# EAGLE library part TPS562209 (library crasbe)
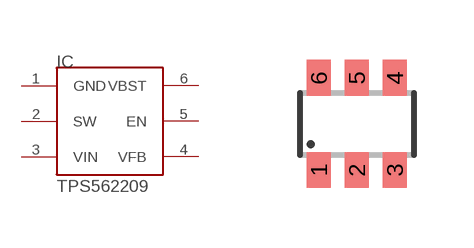
[diagram p40: symbol with the pads of SOT23-6; footprint SOT23-6]

Designator prefix IC

## TPS562209  [SOT23-6]
1  GND  pwr
2  SW  pwr
3  VIN  pwr
4  VFB  in
5  EN  in
6  VBST  pwr

## Footprint SOT23-6 (pad centres in mm)
smd 0.6 x 0.9: 1 -0.95,-1.15; 2 0,-1.15; 3 0.95,-1.15; 4 0.95,1.15; 5 0,1.15; 6 -0.95,1.15